# Altium footprint library ARM_Libary_EURO.PcbLib: 112 footprints (part 6 of 7)
Each footprint in its own frame and in the unit in brackets; x right, y up, seen from the top. Pads: shape width x height; smd on the part's side, far side on the other; paste and mask are expansions set on the pad; w line width, h text height; cw(c..) or ccw(c..) is an arc to the next point about the centre after c.
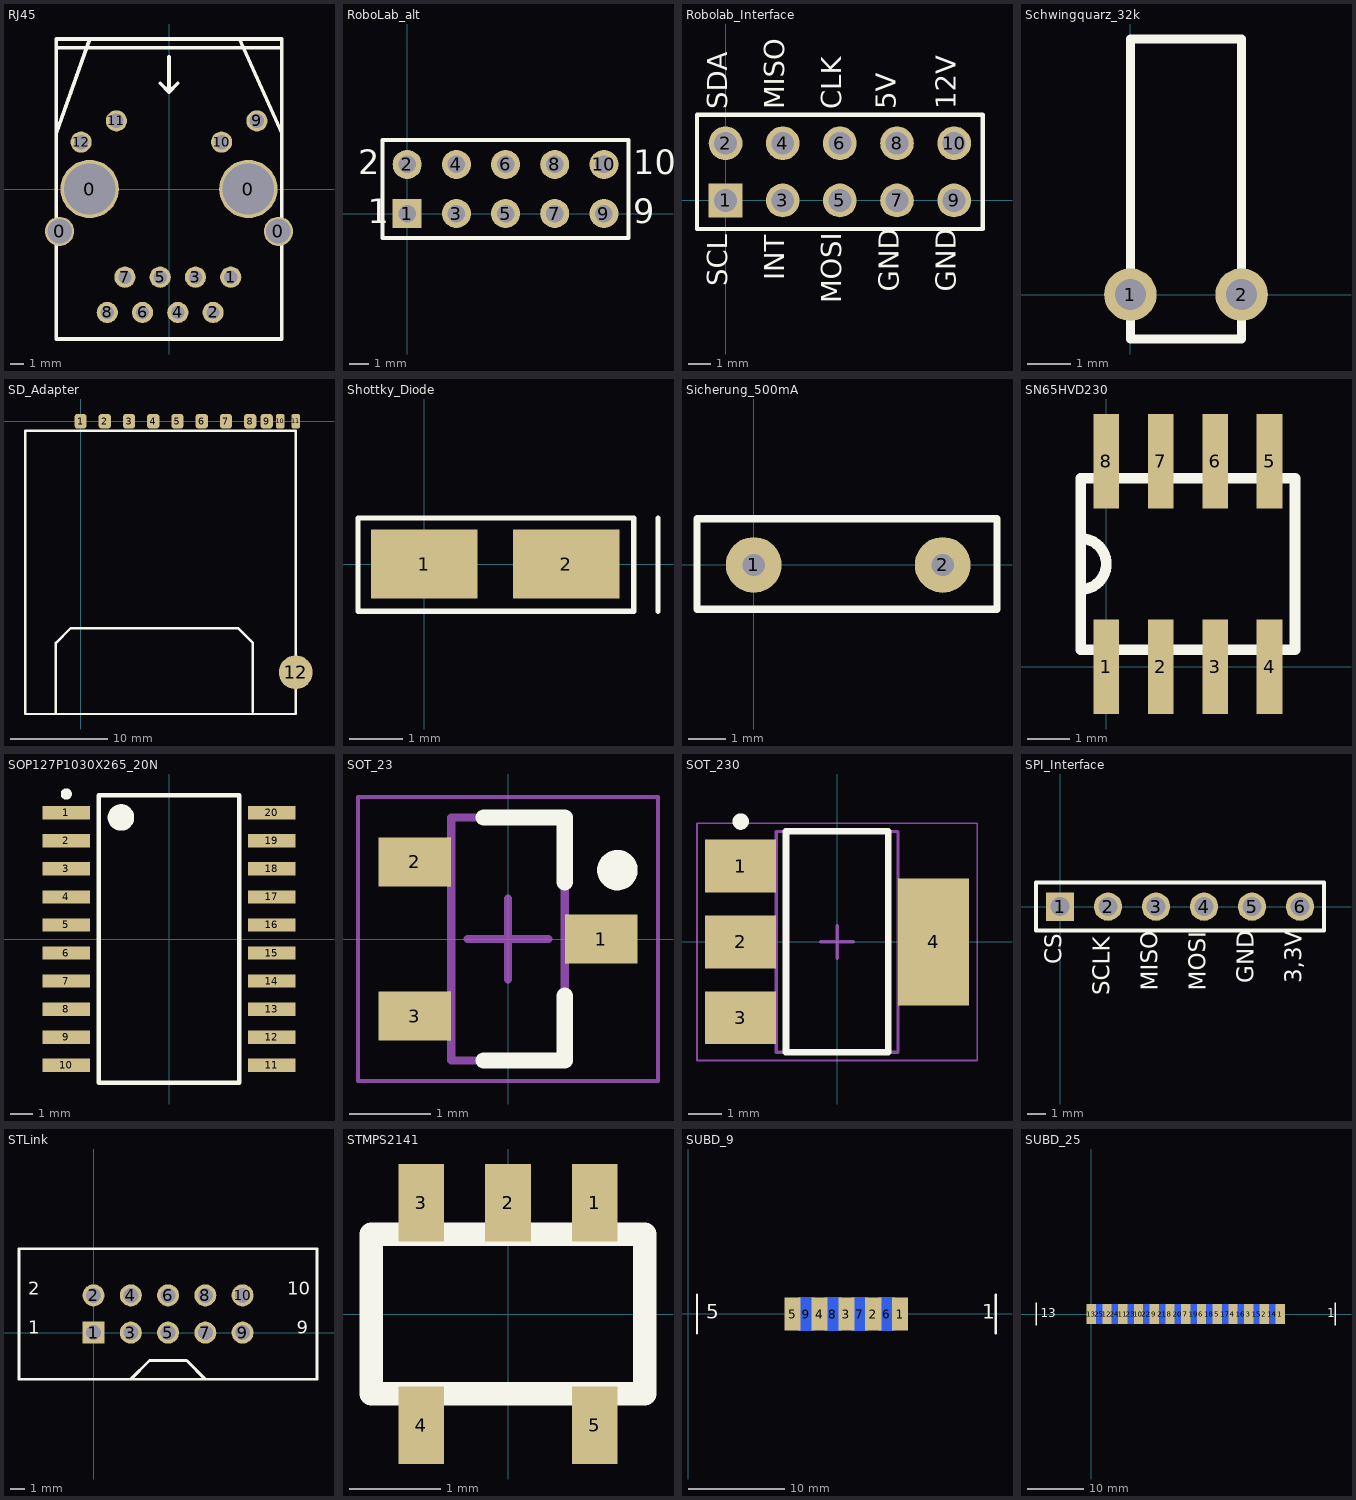
[diagram p5: the footprints below, top view; thin cyan lines are the x and y axes]

## RJ45 [mm] "Ethernet Buchse"
pads (16):
  round 2.1 hole 1.75: 0(-7.875,-3.05) 0(7.875,-3.05)
  round 4.2 hole 3.7: 0(-5.715,0) 0(5.715,0)
  round 1.524 hole 0.95: 1(4.445,-6.35) 2(3.175,-8.89) 3(1.905,-6.35) 4(0.635,-8.89) 5(-0.635,-6.35) 6(-1.905,-8.89) 7(-3.175,-6.35) 8(-4.445,-8.89)
  round 1.524 hole 1.05: 9(6.325,4.9) 10(3.785,3.38) 11(-3.785,4.9) 12(-6.325,3.38)
Top Overlay:
  lines w0.254: -8.13,4 -5.715,10.8 ; -8.13,10.16 8.13,10.16 ; -0.635,7.62 0,6.985 ; 0,9.525 0,6.985 ; 0.635,7.62 0,6.985 ; 5.08,10.795 8.13,4 ; -8.13,-10.8 -8.13,10.8 8.13,10.8 8.13,-10.8 -8.13,-10.8

## RoboLab_alt [mm] "Connector; Header; 5x2 Position"
height 2.54
pads (10):
  rect 1.5x1.5 hole 0.9: 1(0,0)
  round 1.5 hole 0.9: 2(0,2.54) 3(2.54,0) 4(2.54,2.54) 5(5.08,0) 6(5.08,2.54) 7(7.62,0) 8(7.62,2.54) 9(10.16,0) 10(10.16,2.54)
Top Overlay:
  lines w0.2: -1.27,-1.27 11.43,-1.27 11.43,3.81 -1.27,3.81 -1.27,-1.27
  text "10" at 11.684,2.032 h1.27
  text "9" at 11.684,-0.508 h1.27
  text "1" at -2.032,-0.508 h1.27
  text "2" at -2.54,2.032 h1.27

## Robolab_Interface [mm]
pads (10):
  rect 1.5x1.5 hole 1.016: 1(0,0)
  round 1.5 hole 1.016: 2(0,2.54) 3(2.54,0) 4(2.54,2.54) 5(5.08,0) 6(5.08,2.54) 7(7.62,0) 8(7.62,2.54) 9(10.16,0) 10(10.16,2.54)
Top Overlay:
  lines w0.2: -1.27,-1.27 -1.27,3.81 11.43,3.81 11.43,-1.27 -1.27,-1.27
  text "5V" at 7.874,4.064 h1.52
  text "GND" at 8.001,-4.064 h1.52
  text "MOSI" at 5.461,-4.572 h1.52
  text "CLK" at 5.461,4.064 h1.52
  text "MISO" at 2.921,4.064 h1.52
  text "INT" at 2.921,-3.556 h1.52
  text "12V" at 10.541,4.064 h1.52
  text "GND" at 10.541,-4.064 h1.52
  text "SCL" at 0.381,-3.81 h1.52
  text "SDA" at 0.381,4.064 h1.52

## Schwingquarz_32k [mm]
pads (2):
  round 1.2 hole 0.7: 1(0,0) 2(2.54,0)
Top Overlay:
  lines w0.2: 0,-1.016 2.54,-1.016 2.54,5.842 0,5.842 0,-1.016

## SD_Adapter [mm]
pads (12):
  rrect50% 1.27x1.5 smd: 1(0,0) 2(2.5,0) 3(5,0) 4(7.5,0) 5(10,0) 6(12.5,0) 7(15,0) 8(17.5,0) 9(19.2,0)
  rrect50% 0.9x1.5 smd: 10(20.6,0) 11(22.2,0)
  round 3.5 smd: 12(22.2,-25.9)
Top Overlay:
  lines w0.254: -2.54,-30.2 -2.54,-22.86 -1.016,-21.336 16.256,-21.336 17.78,-22.86 17.78,-29.972 ; -5.7,-1 22.2,-1 22.2,-30.1 22.2,-30.2 -5.7,-30.2 -5.7,-30.1 -5.7,-1 ; -5.7,-1 -5.7,-1

## Shottky_Diode [mm]
pads (2):
  rect 2x1.3 smd: 1(0,0) 2(2.667,0)
Top Overlay:
  lines w0.1: 4.394,-0.889 4.394,0.864 ; -1.245,-0.889 3.937,-0.889 3.937,0.864 -1.245,0.864 -1.245,-0.889

## Sicherung_500mA [mm] "USB Fuse"
pads (2):
  round 1.5 hole 0.6: 1(0,0) 2(5.08,0)
Top Overlay:
  lines w0.2: -1.524,1.245 -1.524,-1.194 6.54,-1.194 6.54,1.245 -1.46,1.245

## SN65HVD230 [mm]
pads (8):
  rect 0.6x2.2 smd: 1(0,0) 2(1.27,0) 3(2.54,0) 4(3.81,0) 5(3.81,4.8) 6(2.54,4.8) 7(1.27,4.8) 8(0,4.8)
Top Overlay:
  lines w0.254: -0.595,1.805 ccw(c-0.595,2.4) -0.595,2.995 ; -0.595,0.4 -0.595,4.4 4.405,4.4 4.405,0.4 -0.595,0.4

## SOP127P1030X265_20N [mm] "SOP, 20-Leads, Body 13,0x7,6mm (max), Pitch 1,27mm, IPC Medium Density"
height 2.65
pads (20):
  rect 2.15x0.6 smd: 1(-4.65,5.715) 2(-4.65,4.445) 3(-4.65,3.175) 4(-4.65,1.905) 5(-4.65,0.635) 6(-4.65,-0.635) 7(-4.65,-1.905) 8(-4.65,-3.175) 9(-4.65,-4.445) 10(-4.65,-5.715) 11(4.65,-5.715) 12(4.65,-4.445) 13(4.65,-3.175) 14(4.65,-1.905) 15(4.65,-0.635) 16(4.65,0.635) 17(4.65,1.905) 18(4.65,3.175) 19(4.65,4.445) 20(4.65,5.715)
Top Overlay:
  circle w0.6: c-2.175,5.5 r0.3
  circle w0.25: c-4.65,6.565 r0.125
  lines w0.2: -3.175,-6.5 3.175,-6.5 3.175,6.5 -3.175,6.5 -3.175,-6.5

## SOT_23 [mm] "SOT23, 3-Leads, Body 2,90x2,30mm, Pitch 0,95mm, IPC Medium Density"
height 1.1
pads (3):
  rect 0.9x0.6 smd: 1(1.15,0) 2(-1.15,0.95) 3(-1.15,-0.95)
Top Overlay:
  circle w0.25: c1.35,0.85 r0.125
  lines w0.2: -0.3,-1.5 0.7,-1.5 0.7,-0.7 ; -0.3,1.5 0.7,1.5 0.7,0.7
Mechanical 13:
  lines w0.1: -0.7,-1.5 0.7,-1.5 0.7,1.5 -0.7,1.5 -0.7,-1.5
Mechanical 15:
  lines w0.05: -1.85,-1.75 1.85,-1.75 1.85,1.75 -1.85,1.75 -1.85,-1.75
  lines w0.1: -0.5,0 0.5,0 ; 0,-0.5 0,0.5
3D body: height 1.1, standoff 0.1, extent -0.7,-1.5 0.7,1.5

## SOT_230 [mm] "SOT223, 4-Leads, Body 6,50x7,00mm (avg), Pitch 2,30mm, IPC Medium Density"
height 1.8
pads (4):
  rect 2.15x1.6 smd: 1(-2.925,2.3) 2(-2.925,0) 3(-2.925,-2.3)
  rect 2.15x3.85 smd: 4(2.925,0)
Top Overlay:
  circle w0.25: c-2.925,3.65 r0.125
  lines w0.2: -1.55,-3.35 1.55,-3.35 1.55,3.35 -1.55,3.35 -1.55,-3.35
Mechanical 13:
  lines w0.1: -1.85,-3.35 1.85,-3.35 1.85,3.35 -1.85,3.35 -1.85,-3.35
Mechanical 15:
  lines w0.05: -4.25,-3.6 4.25,-3.6 4.25,3.6 -4.25,3.6 -4.25,-3.6
  lines w0.1: -0.5,0 0.5,0 ; 0,-0.5 0,0.5
3D body: height 1.8, standoff 0.02, extent -1.85,-3.35 1.85,3.35

## SPI_Interface [mm]
pads (6):
  rect 1.5x1.5 hole 1.016: 1(0,0)
  round 1.5 hole 1.016: 2(2.54,0) 3(5.08,0) 4(7.62,0) 5(10.16,0) 6(12.7,0)
Top Overlay:
  lines w0.2: -1.27,-1.27 0.635,-1.27 13.97,-1.27 13.97,1.27 -1.27,1.27 -1.27,-1.27
  text "MOSI" at 8.001,-4.445 h1.52
  text "MISO" at 5.461,-4.445 h1.52
  text "SCLK" at 2.921,-4.699 h1.52
  text "CS" at 0.381,-3.048 h1.52
  text "GND" at 10.541,-4.064 h1.52
  text "3,3V" at 13.081,-4.064 h1.52

## STLink [mm]
pads (10):
  rect 1.5x1.5 hole 1.016: 1(0,0)
  round 1.5 hole 1.016: 2(0,2.54) 3(2.54,0) 4(2.54,2.54) 5(5.08,0) 6(5.08,2.54) 7(7.62,0) 8(7.62,2.54) 9(10.16,0) 10(10.16,2.54)
Top Overlay:
  lines w0.2: 2.54,-3.175 3.81,-1.905 6.35,-1.905 7.62,-3.175 ; -5.08,-3.175 -2.54,-3.175 0,-3.175 12.7,-3.175 15.24,-3.175 15.24,0 15.24,5.715 11.43,5.715 -1.27,5.715 -5.08,5.715 -5.08,0 -5.08,-3.175
  text "10" at 13.208,2.286 h1.52
  text "9" at 13.843,-0.381 h1.52
  text "1" at -4.445,-0.381 h1.52
  text "2" at -4.445,2.286 h1.52

## STMPS2141 [mm] "USB Powerswitch"
height 1.45
pads (5):
  rect 0.5x0.85 smd: 1(0.95,1.22) 2(0,1.22) 3(-0.95,1.22) 4(-0.95,-1.22) 5(0.95,-1.22)
Top Overlay:
  lines w0.254: -1.5,-0.875 1.5,-0.875 1.5,0.875 -1.5,0.875 -1.5,-0.875

## SUBD_9 [mil] "SUBD-9 Buchse female"
pads (9):
  rect 66x137 smd: 1(867.68,-1.81) 2(757.68,-1.81) 3(647.68,-1.81) 4(537.68,-1.81) 5(427.68,-1.81)
  rect 66x137 smd far side: 6(812.68,-1.81) 7(702.68,-1.81) 8(592.68,-1.81) 9(482.68,-1.81)
Top Overlay:
  lines w10: 36.02,-80.55 36.02,-1.81 36.02,76.93 ; 1259.33,-80.55 1259.33,-1.81 1259.33,76.93
  text "1" at 1204.21,-21.5 h60
  text "5" at 74.29,-21.5 h60

## SUBD_25 [mil] "SUBD-25 Buchse"
pads (25):
  rect 66x137 smd: 1(1320,0) 2(1210,0) 3(1100,0) 4(990,0) 5(880,0) 6(770,0) 7(660,0) 8(550,0) 9(440,0) 10(330,0) 11(220,0) 12(110,0) 13(0,0)
  rect 66x137 smd far side: 14(1265,0) 15(1155,0) 16(1045,0) 17(935,0) 18(825,0) 19(715,0) 20(605,0) 21(495,0) 22(385,0) 23(275,0) 24(165,0) 25(55,0)
Top Overlay:
  lines w10: -385.83,-78.74 -385.83,0 -385.83,78.74 ; 1704.72,-78.74 1704.72,0 1704.72,78.74
  text "13" at -354.33,-23.62 h60
  text "1" at 1649.61,-23.62 h60